# Altium schematic symbol library Q 其他.SCHLIB: 6 symbols
Pins are listed as number, name and electrical type; pins without a type are passive.

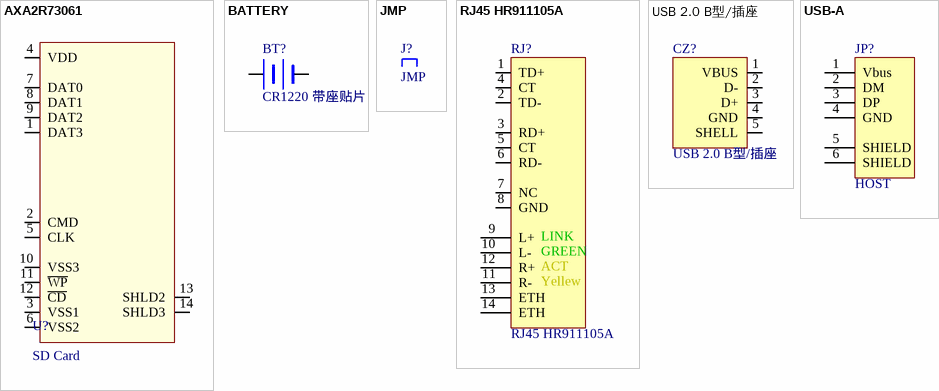
[diagram p0: symbols AXA2R73061 to USB-A]

## AXA2R73061
designator U?, comment SD Card
pins: 1 DAT3, 2 CMD, 3 VSS1, 4 VDD, 5 CLK, 6 VSS2, 7 DAT0, 8 DAT1, 9 DAT2, 10 VSS3, 11 ~{WP}, 12 ~{CD}, 13 SHLD2, 14 SHLD3

## BATTERY
designator BT?, comment CR1220 带座贴片
电池座,CR1220,棕色,SMD,,*; 型号: 电池座,CR1220,棕色,SMD
pins: 1 +, 2 -
2 alternate drawings of the same symbol

## JMP
designator J?
跳线帽

## RJ45 HR911105A
designator RJ?
pins: 1 TD+, 2 TD-, 3 RD+, 4 CT, 5 CT, 6 RD-, 7 NC, 8 GND, 9 L+, 10 L-, 11 R-, 12 R+, 13 ETH, 14 ETH
text: LINK; GREEN; ACT; Yellew

## USB 2.0 B型/插座
designator CZ?
Text Field1: 50; Text Field2: 50
pins: 1 VBUS, 2 D-, 3 D+, 4 GND, 5 SHELL
2 alternate drawings of the same symbol

## USB-A
designator JP?, comment HOST
pins: 1 Vbus, 2 DM, 3 DP, 4 GND, 5 SHIELD, 6 SHIELD
2 alternate drawings of the same symbol